# Altium schematic symbol library TPS61165.SchLib: 2 symbols
Pins are listed as number, name and electrical type; pins without a type are passive.

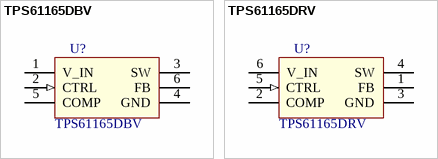
[diagram p0: symbols TPS61165DBV to TPS61165DRV]

## TPS61165DBV
designator U?, comment value TPS61165DBV  (hidden comment: TPS61165)
TPS61165DBV (SOT-23-6 package)
footprint SOT-23-6 (SOT23, 6-Leads, Body 2.9x1.6mm, Pitch 0.95mm, Lead Span 2.8mm, IPC Medium Density)
pins: 1 V_IN (power), 2 CTRL (in), 3 SW, 4 GND (power), 5 COMP, 6 FB

## TPS61165DRV
designator U?, comment value TPS61165DRV  (hidden comment: TPS61165)
TPS61165DRV (WSON6 package)
pins: 1 FB, 2 COMP, 3 GND (power), 4 SW, 5 CTRL (in), 6 V_IN (power)